# EAGLE library part TPS6122X (library myLib)
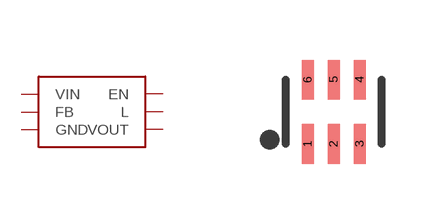
[diagram p7: symbol with the pads of SOT363; footprint SOT363]

Designator prefix -

## TPS6122XSOT363 (CONRAD_TPS61220: 1262480 - 62; CONRAD_TPS61221: 1014896 - 62; CONRAD_TPS61222: 1014897 - 62)  [SOT363]
1  VIN
2  FB
3  GND
4  VOUT
5  L
6  EN

## Footprint SOT363 (pad centres in mm)
smd 0.3 x 0.99: 1 -0.65,-0.8; 2 0,-0.8; 3 0.65,-0.8; 4 0.65,0.81; 5 0,0.81; 6 -0.65,0.81